# EAGLE library part SIM800LMODULE (library common)
SIM800L Module
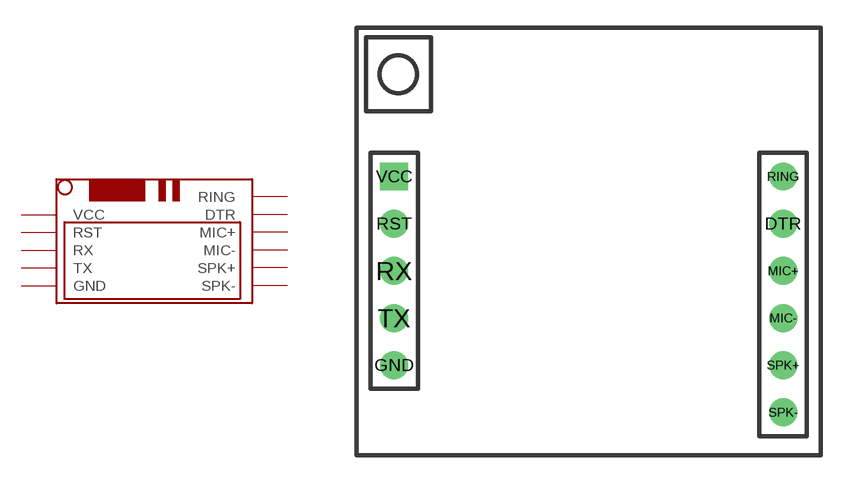
[diagram p4: symbol with the pads of SIM800LMODULE; footprint SIM800LMODULE]

Designator prefix -

## SIM800LMODULE  [SIM800LMODULE]
DTR  DTR
GND  GND
MIC+  MIC+
MIC-  MIC-
RING  RING
RST  RST
RX  RX
SPK+  SPK+
SPK-  SPK-
TX  TX
VCC  VCC

## Footprint SIM800LMODULE (pad centres in mm)
drill 0.8 pad 1.5: DTR 10.795,1.27; GND -10.16,-6.35; MIC+ 10.795,-1.27; MIC- 10.795,-3.81; RING 10.795,3.81; RST -10.16,1.27; RX -10.16,-1.27; SPK+ 10.795,-6.35; SPK- 10.795,-8.89; TX -10.16,-3.81
drill 0.8 pad 1.5 square: VCC -10.16,3.81